# Altium schematic symbol library TPS54331.SchLib: 1 symbol
Pins are listed as number, name and electrical type; pins without a type are passive.

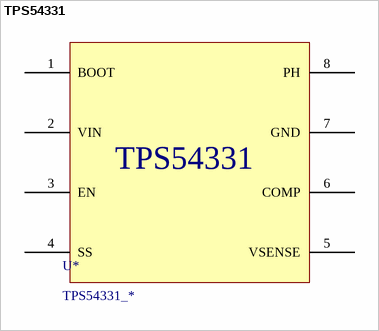
[diagram p0: symbol TPS54331]

## TPS54331
designator U*, comment TPS54331_*
Manufacturer: TI; MPN: TPS54331D
footprint SOIC-8
pins: 1 BOOT, 2 VIN, 3 EN, 4 SS, 5 VSENSE, 6 COMP, 7 GND, 8 PH